# Altium schematic symbol library ADM2483BRWZ.SchLib: 1 symbol
Pins are listed as number, name and electrical type; pins without a type are passive.

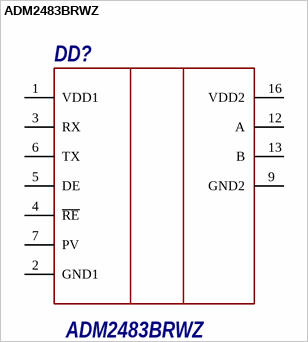
[diagram p0: symbol ADM2483BRWZ]

## ADM2483BRWZ
designator DD?
pins: 1 VDD1, 2 GND1, 3 RX, 4 ~{RE}, 5 DE, 6 TX, 7 PV, 9 GND2, 12 A, 13 B, 16 VDD2